# EAGLE library part MD-60SM (library con-cuistack)
Mini-DIN - 6 Pin
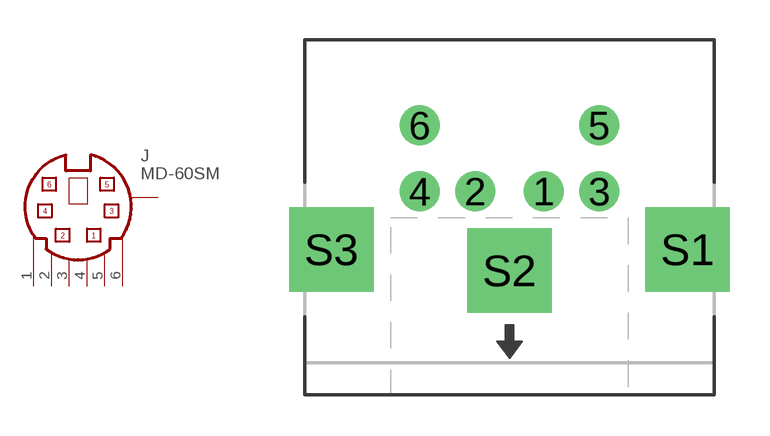
[diagram p2: symbol with the pads of MD-60SM; footprint MD-60SM]

Designator prefix J

## MD-60SM  [MD-60SM]
1  1  pas
2  2  pas
3  3  pas
4  4  pas
5  5  pas
6  6  pas
S1  S1  pas
S2  S2  pas
S3  S3  pas

## Footprint MD-60SM (pad centres in mm)
Mini DIN - 6 Pin
drill 1.016: 1 1.3,3; 2 -1.3,3; 3 3.4,3; 4 -3.4,3; 5 3.4,5.5; 6 -3.4,5.5
drill 2.184 square: S1 6.75,0.8; S2 0,0; S3 -6.75,0.8